# EAGLE library part ADXL320 (library paparazzi3)
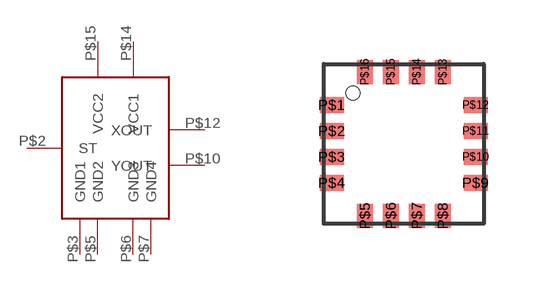
[diagram p24: symbol with the pads of LSCFP; footprint LSCFP]

Designator prefix -

## ADXL320  [LSCFP]
P$2  ST
P$3  GND1
P$5  GND2
P$6  GND3
P$7  GND4
P$10  YOUT
P$12  XOUT
P$14  VCC1
P$15  VCC2

## Footprint LSCFP (pad centres in mm)
smd 0.6 x 0.4: P$1 -1.8,0.975; P$2 -1.8,0.325; P$3 -1.8,-0.325; P$4 -1.8,-0.975; P$9 1.8,-0.975; P$10 1.8,-0.325; P$11 1.8,0.325; P$12 1.8,0.975
smd 0.4 x 0.6: P$5 -0.975,-1.8; P$6 -0.325,-1.8; P$7 0.325,-1.8; P$8 0.975,-1.8; P$13 0.975,1.8; P$14 0.325,1.8; P$15 -0.325,1.8; P$16 -0.975,1.8